# EAGLE library part MC33074 (library op-amp)
OP-AMP
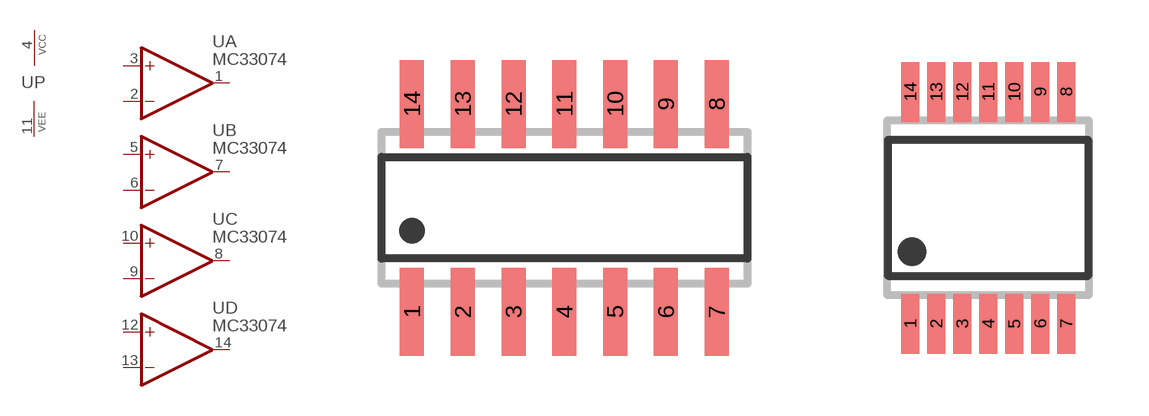
[diagram p102: symbol with the pads of SO14; footprints SO14, TSSOP14]

Designator prefix U; gates P=PWR_VCCVEE A=OPAMP_NV B=OPAMP_NV C=OPAMP_NV D=OPAMP_NV

## MC33074D  [SO14]
1  A:OUT  out
2  A:-IN  in
3  A:+IN  in
4  P:VCC  pwr
5  B:+IN  in
6  B:-IN  in
7  B:OUT  out
8  C:OUT  out
9  C:-IN  in
10  C:+IN  in
11  P:VEE  pwr
12  D:+IN  in
13  D:-IN  in
14  D:OUT  out

## MC33074DT  [TSSOP14]
Pads as for SO14

## Footprint SO14 (pad centres in mm)
SMALL OUTLINE INTEGRATED CIRCUIT body 3.9 mm/JEDEC MS-012AC
smd 0.6 x 2.2: 1 -3.81,-2.6; 2 -2.54,-2.6; 3 -1.27,-2.6; 4 0,-2.6; 5 1.27,-2.6; 6 2.54,-2.6; 7 3.81,-2.6; 8 3.81,2.6; 9 2.54,2.6; 10 1.27,2.6; 11 0,2.6; 12 -1.27,2.6; 13 -2.54,2.6; 14 -3.81,2.6

## Footprint TSSOP14 (pad centres in mm)
Thin Shrink Small Outline Plastic 14
smd 0.45 x 1.5: 1 -1.95,-2.9; 2 -1.3,-2.9; 3 -0.65,-2.9; 4 0,-2.9; 5 0.65,-2.9; 6 1.3,-2.9; 7 1.95,-2.9; 8 1.95,2.9; 9 1.3,2.9; 10 0.65,2.9; 11 0,2.9; 12 -0.65,2.9; 13 -1.3,2.9; 14 -1.95,2.9